# Altium footprint library PCB.PcbLib: 224 footprints (part 10 of 14)
Each footprint in its own frame and in the unit in brackets; x right, y up, seen from the top. Pads: shape width x height; smd on the part's side, far side on the other; paste and mask are expansions set on the pad; w line width, h text height; cw(c..) or ccw(c..) is an arc to the next point about the centre after c.
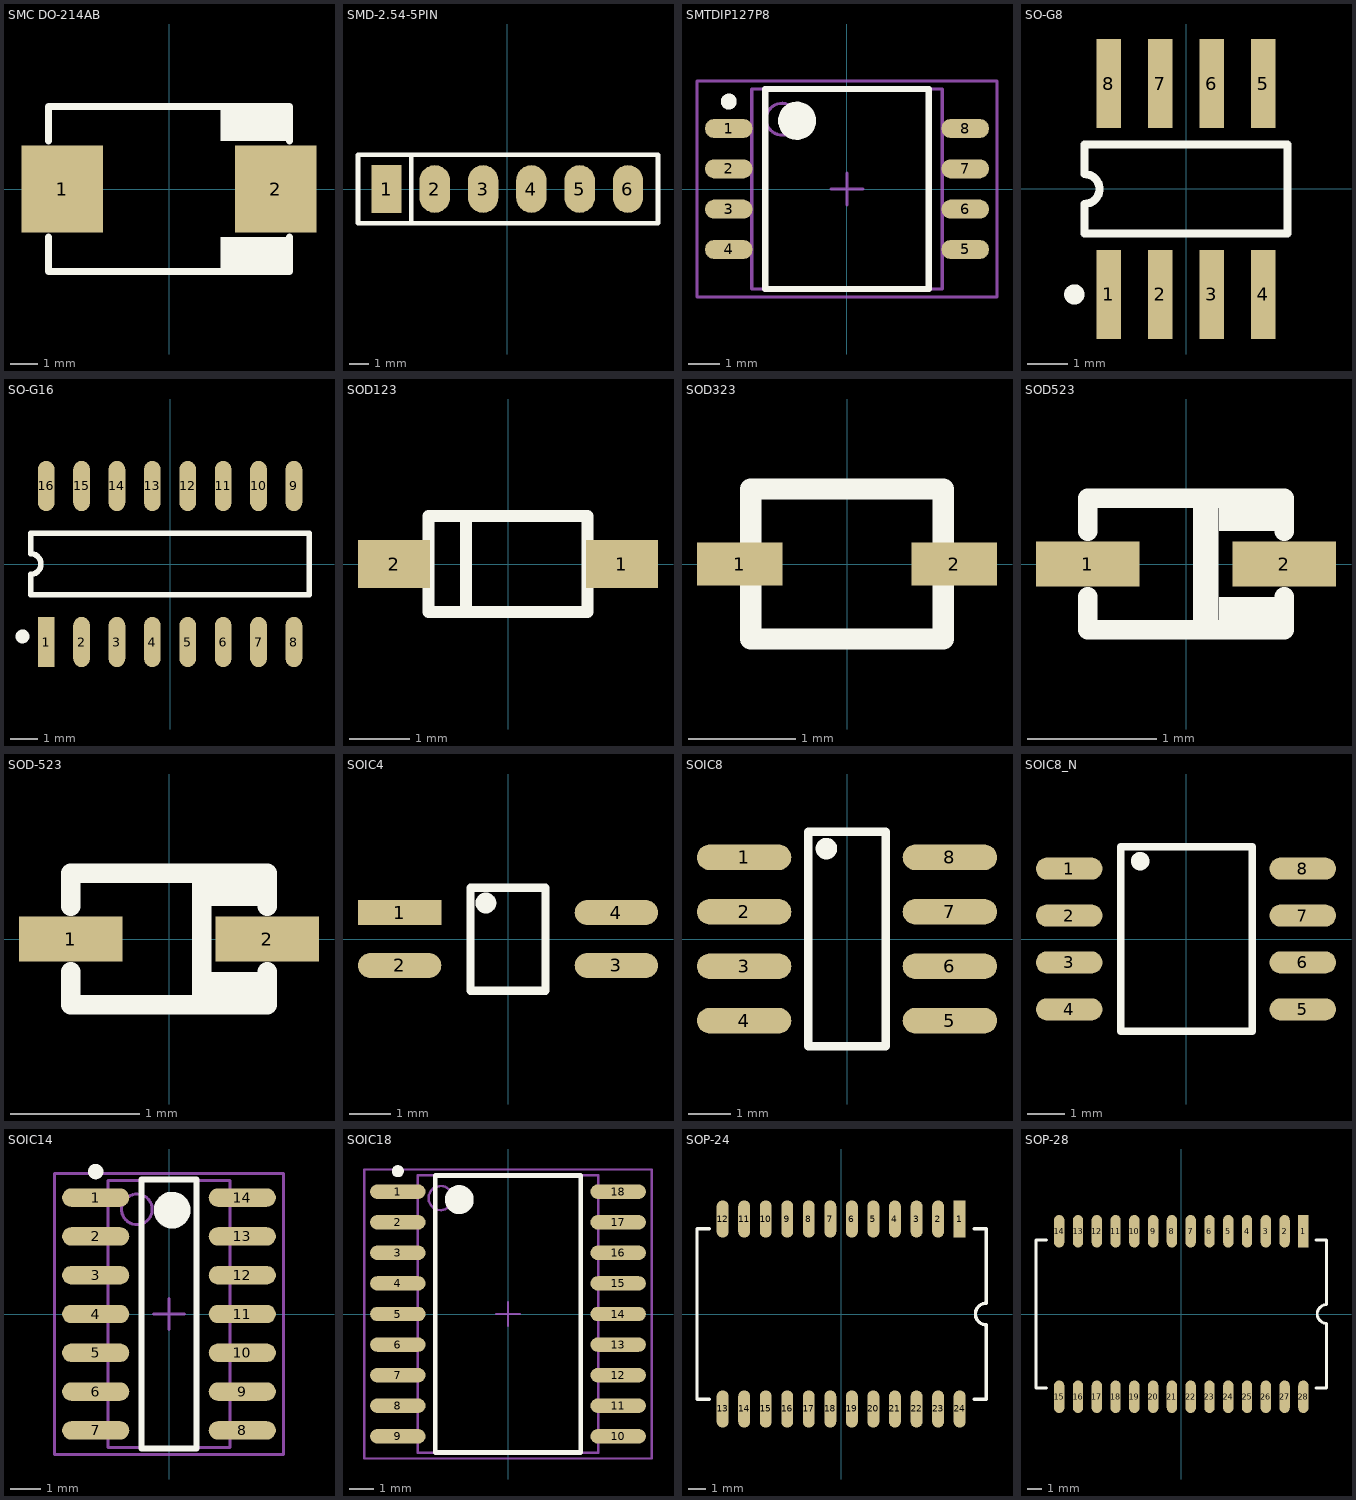
[diagram p9: the footprints below, top view; thin cyan lines are the x and y axes]

## SMC DO-214AB [mm]
pads (2):
  rect 3x3.2 smd: 1(-3.937,0) 2(3.937,0)
Top Overlay:
  rectangle: 1.905,-3.048 4.445,-1.778
  rectangle: 1.905,1.778 4.445,3.048
  lines w0.254: -4.445,-1.778 -4.445,-3.048 4.445,-3.048 4.445,-1.778 ; -4.445,1.778 -4.445,3.048 4.445,3.048 4.445,1.778

## SMD-2.54-5PIN [mm]
pads (6):
  rect 1.6x2.5 smd: 1(-6.35,0)
  oval 1.6x2.5 smd: 2(-3.81,0) 3(-1.27,0) 4(1.27,0) 5(3.81,0) 6(6.35,0)
Top Overlay:
  lines w0.254: -5.05,-1.8 -5.05,1.8 ; -7.85,-1.8 7.93,-1.8 7.93,1.8 -7.85,1.8 -7.85,-1.8

## SMTDIP127P8 [mm]
height 2
pads (8):
  oval 1.5x0.6 smd: 1(-3.725,1.905) 2(-3.725,0.635) 3(-3.725,-0.635) 4(-3.725,-1.905) 5(3.725,-1.905) 6(3.725,-0.635) 7(3.725,0.635) 8(3.725,1.905)
Top Overlay:
  circle w0.6: c-1.575,2.15 r0.3
  circle w0.25: c-3.725,2.755 r0.125
  lines w0.2: -2.575,-3.15 2.575,-3.15 2.575,3.15 -2.575,3.15 -2.575,-3.15
Mechanical 13:
  circle w0.1: c-2.05,2.2 r0.5
  lines w0.1: -3,-3.15 3,-3.15 3,3.15 -3,3.15 -3,-3.15
Mechanical 15:
  lines w0.1: -0.5,0 0.5,0 ; 0,-0.5 0,0.5 ; -4.725,-3.4 4.725,-3.4 4.725,3.4 -4.725,3.4 -4.725,-3.4
3D body: height 2, standoff 0.1, extent -3,-3.15 3,3.15

## SO-G8 [mm]
pads (8):
  rect 0.6x2.2 smd: 1(-1.905,-2.6) 2(-0.635,-2.6) 3(0.635,-2.6) 4(1.905,-2.6) 5(1.905,2.6) 6(0.635,2.6) 7(-0.635,2.6) 8(-1.905,2.6)
Top Overlay:
  circle w0.25: c-2.755,-2.6 r0.125
  lines w0.2: -2.5,-1.1 -2.5,-0.367 ccw(c-2.5,0) -2.5,0.367 -2.5,1.1 2.5,1.1 2.5,-1.1 -2.5,-1.1

## SO-G16 [mm]
pads (16):
  rect 0.6x1.8 smd: 1(-4.445,-2.8)
  oval 0.6x1.8 smd: 2(-3.175,-2.8) 3(-1.905,-2.8) 4(-0.635,-2.8) 5(0.635,-2.8) 6(1.905,-2.8) 7(3.175,-2.8) 8(4.445,-2.8) 9(4.445,2.8) 10(3.175,2.8) 11(1.905,2.8) 12(0.635,2.8) 13(-0.635,2.8) 14(-1.905,2.8) 15(-3.175,2.8) 16(-4.445,2.8)
Top Overlay:
  circle w0.25: c-5.295,-2.6 r0.125
  lines w0.2: -5,-1.1 5,-1.1 5,1.1 -5,1.1 -5,0.367 cw(c-5,0) -5,-0.367 -5,-1.1

## SOD123 [mm]
pads (2):
  rect 1.2x0.8 smd: 1(1.9,0) 2(-1.9,0)
Top Overlay:
  lines w0.2: -1.325,-0.8 -1.325,0.8 1.325,0.8 1.325,-0.8 -1.3,-0.8 ; -0.7,-0.8 -0.7,0.8

## SOD323 [mm]
height 1.1
pads (2):
  rect 0.8x0.4 smd: 1(-1,0) 2(1,0)
Top Overlay:
  lines w0.2: -0.9,-0.7 0.9,-0.7 0.9,0.7 -0.9,0.7 -0.9,-0.7

## SOD523 [mm]
pads (2):
  rect 0.8x0.35 smd: 1(-0.762,0) 2(0.762,0)
Top Overlay:
  rectangle: 0.254,0.254 0.762,0.508
  rectangle: 0.254,-0.508 0.762,-0.254
  lines w0.15: -0.762,-0.254 -0.762,-0.508 0.762,-0.508 0.762,-0.254 ; -0.762,0.254 -0.762,0.508 0.762,0.508 0.762,0.254
  lines w0.2: 0.152,-0.432 0.152,0.457

## SOD-523 [mm]
pads (2):
  rect 0.8x0.35 smd: 1(-0.762,0) 2(0.762,0)
Top Overlay:
  rectangle: 0.254,0.254 0.762,0.508
  rectangle: 0.254,-0.508 0.762,-0.254
  lines w0.15: -0.762,-0.254 -0.762,-0.508 0.762,-0.508 0.762,-0.254 ; -0.762,0.254 -0.762,0.508 0.762,0.508 0.762,0.254 ; 0.254,-0.508 0.254,0.508

## SOIC4 [mm]
pads (4):
  rect 2x0.6 smd: 1(-2.6,0.635)
  oval 2x0.6 smd: 2(-2.6,-0.635) 3(2.6,-0.635) 4(2.6,0.635)
Top Overlay:
  circle w0.25: c-0.531,0.864 r0.125
  lines w0.2: -0.9,-1.245 0.9,-1.245 0.9,1.23 -0.9,1.23 -0.9,-1.245

## SOIC8 [mm] "SOIC, 8-Leads, Body 4.9x3.9mm, Pitch 1.27mm, IPC Medium Density"
height 1.75
pads (8):
  oval 2.2x0.6 smd: 1(-2.4,1.905) 2(-2.4,0.635) 3(-2.4,-0.635) 4(-2.4,-1.905) 5(2.4,-1.905) 6(2.4,-0.635) 7(2.4,0.635) 8(2.4,1.905)
Top Overlay:
  circle w0.25: c-0.481,2.108 r0.125
  lines w0.2: -0.9,-2.5 0.9,-2.5 0.9,2.5 -0.9,2.5 -0.9,-2.5

## SOIC8_N [mm] "SOIC, 8-Leads, Body 4.9x3.9mm, Pitch 1.27mm, IPC Medium Density"
height 1.75
pads (8):
  oval 1.8x0.6 smd: 1(-3.162,1.905) 2(-3.162,0.635) 3(-3.162,-0.635) 4(-3.162,-1.905) 5(3.162,-1.905) 6(3.162,-0.635) 7(3.162,0.635) 8(3.162,1.905)
Top Overlay:
  circle w0.25: c-1.243,2.108 r0.125
  lines w0.2: -1.765,-2.5 1.791,-2.5 1.791,2.5 -1.765,2.5 -1.765,-2.5

## SOIC14 [mm]
height 2.16
pads (14):
  oval 2.2x0.6 smd: 1(-2.4,3.81) 2(-2.4,2.54) 3(-2.4,1.27) 4(-2.4,0) 5(-2.4,-1.27) 6(-2.4,-2.54) 7(-2.4,-3.81) 8(2.4,-3.81) 9(2.4,-2.54) 10(2.4,-1.27) 11(2.4,0) 12(2.4,1.27) 13(2.4,2.54) 14(2.4,3.81)
Top Overlay:
  circle w0.6: c0.1,3.4 r0.3
  circle w0.25: c-2.4,4.66 r0.125
  lines w0.2: -0.9,-4.4 0.9,-4.4 0.9,4.4 -0.9,4.4 -0.9,-4.4
Mechanical 13:
  circle w0.1: c-1.05,3.425 r0.5
  lines w0.1: -2,-4.375 2,-4.375 2,4.375 -2,4.375 -2,-4.375
Mechanical 15:
  lines w0.1: -0.5,0 0.5,0 ; 0,-0.5 0,0.5 ; -3.75,-4.6 3.75,-4.6 3.75,4.6 -3.75,4.6 -3.75,-4.6
3D body: height 2.16, standoff 0.1, extent -2,-4.375 2,4.375

## SOIC18 [mm] "SOIC, 18-Leads, Body 11.5x7.5mm (max), Pitch 1.27mm, IPC Medium Density"
height 2.65
pads (18):
  oval 2.3x0.6 smd: 1(-4.575,5.08) 2(-4.575,3.81) 3(-4.575,2.54) 4(-4.575,1.27) 5(-4.575,0) 6(-4.575,-1.27) 7(-4.575,-2.54) 8(-4.575,-3.81) 9(-4.575,-5.08) 10(4.575,-5.08) 11(4.575,-3.81) 12(4.575,-2.54) 13(4.575,-1.27) 14(4.575,0) 15(4.575,1.27) 16(4.575,2.54) 17(4.575,3.81) 18(4.575,5.08)
Top Overlay:
  circle w0.6: c-2.025,4.75 r0.3
  circle w0.25: c-4.575,5.93 r0.125
  lines w0.2: -3.025,-5.75 3.025,-5.75 3.025,5.75 -3.025,5.75 -3.025,-5.75
Mechanical 13:
  circle w0.1: c-2.8,4.815 r0.5
  lines w0.1: -3.75,-5.765 3.75,-5.765 3.75,5.765 -3.75,5.765 -3.75,-5.765
Mechanical 15:
  lines w0.1: -0.5,0 0.5,0 ; 0,-0.5 0,0.5 ; -5.975,-6 5.975,-6 5.975,6 -5.975,6 -5.975,-6
3D body: height 2.65, standoff 0.1, extent -3.75,-5.765 3.75,5.765

## SOP-24 [mm]
pads (24):
  rect 0.7x2.2 smd: 1(6.985,5.6)
  oval 0.7x2.2 smd: 2(5.715,5.6) 3(4.445,5.6) 4(3.175,5.6) 5(1.905,5.6) 6(0.635,5.6) 7(-0.635,5.6) 8(-1.905,5.6) 9(-3.175,5.6) 10(-4.445,5.6) 11(-5.715,5.6) 12(-6.985,5.6) 13(-6.985,-5.6) 14(-5.715,-5.6) 15(-4.445,-5.6) 16(-3.175,-5.6) 17(-1.905,-5.6) 18(-0.635,-5.6) 19(0.635,-5.6) 20(1.905,-5.6) 21(3.175,-5.6) 22(4.445,-5.6) 23(5.715,-5.6) 24(6.985,-5.6)
Top Overlay:
  lines w0.2: -7.775,-5.015 -8.495,-5.015 -8.495,5.015 -7.775,5.015 ; 7.835,-5.015 8.555,-5.015 8.555,-0.635 cw(c8.555,0) 8.555,0.635 8.555,5.015 7.835,5.015

## SOP-28 [mm]
pads (28):
  rect 0.7x2.2 smd: 1(8.255,5.6)
  oval 0.7x2.2 smd: 2(6.985,5.6) 3(5.715,5.6) 4(4.445,5.6) 5(3.175,5.6) 6(1.905,5.6) 7(0.635,5.6) 8(-0.635,5.6) 9(-1.905,5.6) 10(-3.175,5.6) 11(-4.445,5.6) 12(-5.715,5.6) 13(-6.985,5.6) 14(-8.255,5.6) 15(-8.255,-5.6) 16(-6.985,-5.6) 17(-5.715,-5.6) 18(-4.445,-5.6) 19(-3.175,-5.6) 20(-1.905,-5.6) 21(-0.635,-5.6) 22(0.635,-5.6) 23(1.905,-5.6) 24(3.175,-5.6) 25(4.445,-5.6) 26(5.715,-5.6) 27(6.985,-5.6) 28(8.255,-5.6)
Top Overlay:
  lines w0.2: -9.105,-5.015 -9.825,-5.015 -9.825,5.015 -9.105,5.015 ; 9.105,-5.015 9.825,-5.015 9.825,-0.635 cw(c9.825,0) 9.825,0.635 9.825,5.015 9.105,5.015